# Altium footprint library Library.PcbLib: 17 footprints (part 1 of 2)
Each footprint in its own frame and in the unit in brackets; x right, y up, seen from the top. Pads: shape width x height; smd on the part's side, far side on the other; paste and mask are expansions set on the pad; w line width, h text height; cw(c..) or ccw(c..) is an arc to the next point about the centre after c.
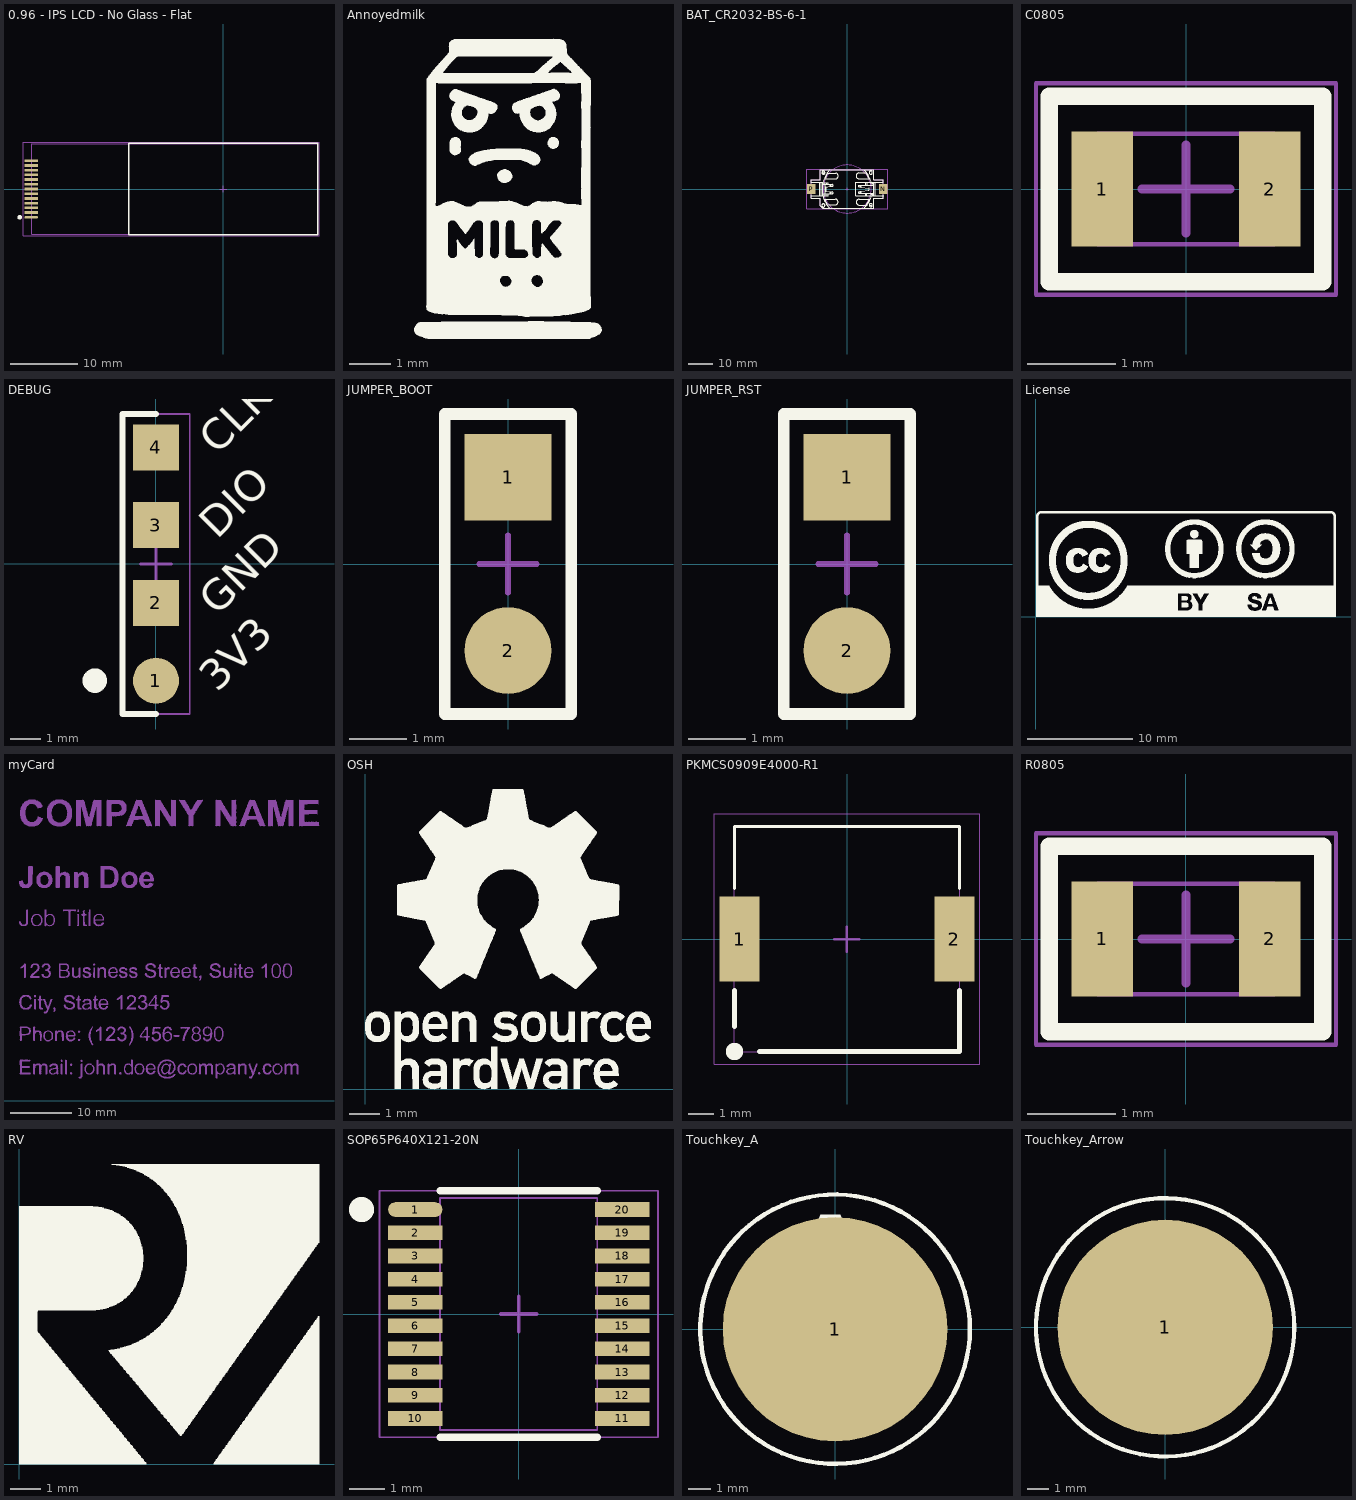
[diagram p0: the footprints below, top view; thin cyan lines are the x and y axes]

## 0.96 - IPS LCD - No Glass - Flat [mm]
pads (13):
  oval 2x0.4 smd: 1(-28.5,-4.2)
  rect 2x0.4 smd: 2(-28.5,-3.5) 3(-28.5,-2.8) 4(-28.5,-2.1) 5(-28.5,-1.4) 6(-28.5,-0.7) 7(-28.5,0) 8(-28.5,0.7) 9(-28.5,1.4) 10(-28.5,2.1) 11(-28.5,2.8) 12(-28.5,3.5) 13(-28.5,4.2)
Top Overlay:
  circle w0.5: c-30.2,-4.2 r0.1
  lines w0.2: -14,-6.75 14,-6.75 14,6.75 -14,6.75 -14,-6.75
Top 3D Body:
  lines w0.05: -28.375,-6.744 13.983,-6.744 13.983,6.744 -28.375,6.744 -28.375,-6.744
Top Courtyard:
  lines w0.05: -29.7,-6.9 14.2,-6.9 14.2,6.9 -29.7,6.9 -29.7,-6.9
Top Component Center:
  lines w0.1: -0.5,0 0.5,0 ; 0,-0.5 0,0.5
3D body "0.96 - IPS LCD - No Glass - Flat.stp": height 1.37, standoff -0.01, extent -28.375,-6.744 13.983,6.744

## Annoyedmilk [mm] "Image"
Top Overlay:
  drawing of 8 lines, arcs and shapes, not listed

## BAT_CR2032-BS-6-1 [mm]
height 5.55
pads (2):
  rect 3.5x4.2 smd paste+0 mask+0.102: N(14.975,0) P(-15.001,0)
Top Overlay:
  lines w0.254: -15.024,-2.794 -10.097,-2.794 ; -15.024,-2.479 -15.024,-3.785 -11.113,-3.785 ; -14.999,2.479 -14.999,3.785 -11.163,3.785 -11.163,7.976 -11.138,8.001 11.062,8.001 11.062,3.81 ; -14.999,2.692 cw(c-14.972,2.693) -14.971,2.72 ; -14.972,2.719 -10.097,2.719 ; -11.392,-2.743 -11.392,2.667 cw(c-11.341,2.667) -11.341,2.718 ; -11.113,-3.81 -11.113,-6.959 -10.071,-8.001 11.087,-8.001 11.112,-7.976 11.112,-3.785 14.948,-3.785 14.948,-2.479 ; -10.782,-2.794 -10.782,2.692 cw(c-10.757,2.692) -10.757,2.718 ; -10.528,6.807 -9.284,6.807 ; -10.198,-2.794 ccw(c-10.198,-2.743) -10.147,-2.743 ccw(c0.915,-0.11) -7.3,-7.973 ; -10.147,2.644 cw(c-10.073,2.646) -10.074,2.72 cw(c0.989,0.087) -7.226,7.95 ; -10.097,-2.057 -8.649,-2.057 -8.649,-2.794 ; -10.097,1.93 ccw(c-10.097,1.981) -10.046,1.981 ; -9.995,1.93 -8.547,1.93 -8.547,2.667 ; -9.876,-7.498 cw(c-9.869,-6.833) -9.863,-7.498 ; -9.876,6.142 cw(c-9.869,6.806) -9.863,6.142 ; -9.868,6.172 -9.868,7.442 ; -9.665,-4.191 -4.966,-4.191 cw(c-5.023,-5.421) -4.788,-6.629 -8.242,-6.629 ; -9.589,4.216 -4.89,4.216 ccw(c-4.947,5.446) -4.712,6.655 -8.166,6.655 ; -9.563,-2.794 -9.563,-2.083 ; -9.462,1.93 -9.462,2.642 ; -9.36,-4.242 cw(c-33.543,-20.082) -8.242,-6.096 -8.242,-6.68 ; -9.309,4.242 ccw(c-33.492,20.082) -8.192,6.096 -8.192,6.68 ; -9.131,1.93 -6.21,1.93 cw(c-6.295,1.499) -6.21,1.067 -6.566,1.067 ; -9.106,1.854 -9.106,-2.057 -6.185,-2.057 ccw(c-6.269,-1.626) -6.185,-1.194 -6.541,-1.194 ; -9.077,0.813 -7.095,1.067 -6.566,1.067 ; -9.052,-0.94 -6.928,-1.212 ; -8.776,-0.94 -8.776,0.855 ; -7.887,-2.108 -7.887,-2.794 -8.649,-2.794 ; -7.887,1.93 -7.887,2.692 -10.097,2.692 -10.097,-2.794 ; -6.998,1.067 -6.998,1.93 ; -6.972,-2.057 -6.972,-1.194 -6.541,-1.194 ; -6.566,1.93 -6.566,1.067 ; -6.541,-2.057 -6.541,-1.194 ; 4.712,6.68 8.166,6.68 ; 4.737,6.68 ccw(c4.973,5.472) 4.915,4.242 ; 4.889,4.242 9.588,4.242 ; 5.55,-1.753 5.55,-0.991 ; 5.55,0.864 5.55,1.626 ; 5.905,-1.727 5.905,-0.838 ; 5.905,1.6 5.905,0.711 ; 7.023,-8.001 ccw(c-0.837,0.217) 10.104,-2.883 ; 7.033,7.958 cw(c-0.915,-0.175) 10.02,2.946 ; 7.658,-2.896 7.658,-1.753 ; 7.683,1.676 7.683,2.819 ; 8.064,6.706 8.064,6.121 ccw(c33.365,20.107) 9.182,4.267 ; 8.242,-2.896 8.242,-1.753 ; 8.268,1.676 8.268,2.819 ; 9.182,-6.706 10.477,-6.706 ; 9.233,-4.216 ccw(c33.416,-20.056) 8.115,-6.071 8.115,-6.655 8.268,-6.655 4.813,-6.655 cw(c5.049,-5.446) 4.991,-4.216 9.639,-4.216 ; 9.835,-7.371 cw(c9.841,-6.706) 9.848,-7.371 ; 9.835,6.142 cw(c9.841,6.806) 9.848,6.142 ; 10.02,-2.799 10.02,-2.261 11.163,-2.261 ; 10.02,2.799 10.02,2.261 11.163,2.261 ; 10.731,-2.896 10.731,-2.311 ; 10.731,2.311 10.731,2.896 ; 11.062,3.785 14.973,3.785 14.973,2.479 ; 11.138,-1.753 4.737,-1.753 4.737,-1.245 4.737,-1.041 5.499,-1.041 5.702,-0.838 5.905,-0.838 ; 11.138,1.626 4.737,1.626 4.737,1.118 4.737,0.914 5.499,0.914 5.702,0.711 5.905,0.711 ; 11.163,-2.896 11.163,2.845 ; 11.646,-2.819 11.646,2.794 ; 14.948,-2.921 14.922,-2.896 12.281,-2.896 11.9,-2.896 3.569,-2.896 3.569,2.845 3.619,2.896 11.925,2.896 12.306,2.896 12.941,2.896 14.948,2.896 14.973,2.921 ; -10.097,-2.794 -8.649,-2.794 ; 5.905,-0.838 9.08,-0.432 ccw(c8.712,-0.064) 9.08,0.305 5.905,0.711
Top 3D Body:
  circle w0.15: c0,0 r10
  lines w0.05: -14.999,-3.785 -14.999,3.785 -11.163,3.785 -11.163,8 11.05,8 11.05,3.785 14.948,3.785 14.948,-3.785 11.05,-3.785 11.05,-8 -10.072,-8 -11.113,-6.959 -11.113,-3.785 -14.999,-3.785
Top Courtyard:
  lines w0.05: -16.9,-8.2 -16.9,8.2 16.9,8.2 16.9,-8.2 -16.9,-8.2
Top Component Center:
  lines w0.1: -0.5,0 0.5,0 ; 0,-0.5 0,0.5
3D body "step_temp.STEP": height 5.55, standoff 0, extent -15.65,-8 15.65,8

## C0805 [mm]
pads (2):
  rect 0.7x1.3 smd paste+0 mask+0: 1(-0.95,0) 2(0.95,0)
Top Overlay:
  lines w0.2: -1.55,-1.05 1.55,-1.05 1.55,1.05 -1.55,1.05 -1.55,-1.05
Top 3D Body:
  lines w0.05: -1,-0.625 1,-0.625 1,0.625 -1,0.625 -1,-0.625
Top Courtyard:
  lines w0.05: -1.7,-1.2 1.7,-1.2 1.7,1.2 -1.7,1.2 -1.7,-1.2
Top Component Center:
  lines w0.1: -0.5,0 0.5,0 ; 0,-0.5 0,0.5
3D body "Cap_Murata_GRM21BC81C106KA73L_eec.STEP": height 1.4, standoff 0, extent -1,-0.625 1,0.625

## DEBUG [mm]
height 1.21
pads (4):
  round 1.5 smd: 1(0,-3.81)
  rect 1.5x1.5 smd: 2(0,-1.27) 3(0,1.27) 4(0,3.81)
Top Overlay:
  circle w0.5: c-2,-3.81 r0.15
  lines w0.2: 0,-4.9 -1.1,-4.9 -1.1,4.9 0,4.9
  text "3V3" at 2,-4.217 h1
  text "GND" at 2,-1.717 h1
  text "DIO" at 2,0.783 h1
  text "CLK" at 2,3.533 h1
Top Courtyard:
  lines w0.05: -1.1,-4.9 1.1,-4.9 1.1,4.9 -1.1,4.9 -1.1,-4.9
Top Component Center:
  lines w0.1: -0.5,0 0.5,0 ; 0,-0.5 0,0.5

## JUMPER_BOOT [mm]
height 1.21
pads (2):
  rect 1.5x1.5 smd: 1(0,1.5)
  round 1.5 smd: 2(0,-1.5)
Top Overlay:
  lines w0.2: -1.1,-2.6 1.1,-2.6 1.1,2.6 -1.1,2.6 -1.1,-2.6
Top Courtyard:
  lines w0.05: -1.1,-2.6 -1.1,2.6 1.1,2.6 1.1,-2.6 -1.1,-2.6
Top Component Center:
  lines w0.1: -0.5,0 0.5,0 ; 0,-0.5 0,0.5

## JUMPER_RST [mm]
height 1.21
pads (2):
  rect 1.5x1.5 smd: 1(0,1.5)
  round 1.5 smd: 2(0,-1.5)
Top Overlay:
  lines w0.2: -1.1,-2.6 -1.1,2.6 1.1,2.6 1.1,-2.6 -1.1,-2.6
Top Courtyard:
  lines w0.05: -1.1,-2.6 1.1,-2.6 1.1,2.6 -1.1,2.6 -1.1,-2.6
Top Component Center:
  lines w0.1: -0.5,0 0.5,0 ; 0,-0.5 0,0.5

## License [mm] "Image"
Top Overlay:
  drawing of 12 lines, arcs and shapes, not listed

## myCard [mm] "Image"
Top Solder:
  drawing of 120 lines, arcs and shapes, not listed

## OSH [mm] "Image"
Top Overlay:
  drawing of 18 lines, arcs and shapes, not listed

## PKMCS0909E4000-R1 [mm]
pads (2):
  rect 1.6x3.4 smd: 1(-4.3,0) 2(4.3,0)
Top Overlay:
  circle w0.5: c-4.5,-4.5 r0.1
  lines w0.127: -4.5,2.015 -4.5,4.5 4.5,4.5 4.5,2.015
  lines w0.2: -4.5,-3.5 -4.5,-2.052 ; -3.5,-4.5 4.5,-4.5 4.5,-2.052
Top 3D Body:
  lines w0.05: -4.5,-4.5 -4.5,4.5 4.5,4.5 4.5,-4.5 -4.5,-4.5
Top Courtyard:
  lines w0.05: -5.3,-5 -5.3,5 5.3,5 5.3,-5 -5.3,-5
Top Component Center:
  lines w0.1: -0.5,0 0.5,0 ; 0,-0.5 0,0.5
3D body "PKMCS0909E4000-R1--3DModel-STEP-56544.STEP": height 1.9, standoff 0, extent -4.5,-4.5 4.5,4.5

## R0805 [mm]
pads (2):
  rect 0.7x1.3 smd paste+0 mask+0: 1(-0.95,0) 2(0.95,0)
Top Overlay:
  lines w0.2: -1.55,-1.05 1.55,-1.05 1.55,1.05 -1.55,1.05 -1.55,-1.05
Top 3D Body:
  lines w0.05: -1,-0.625 1,-0.625 1,0.625 -1,0.625 -1,-0.625
Top Courtyard:
  lines w0.05: -1.7,-1.2 1.7,-1.2 1.7,1.2 -1.7,1.2 -1.7,-1.2
Top Component Center:
  lines w0.1: -0.5,0 0.5,0 ; 0,-0.5 0,0.5
3D body "Res_Vishay_CRCW0805100KFKEA_eec.STEP": height 0.5, standoff 0, extent -1,-0.625 1,0.625

## RV [mm] "Image"
Top Overlay:
  drawing of 3 lines, arcs and shapes, not listed

## SOP65P640X121-20N [mm]
height 1.21
pads (20):
  oval 1.52x0.41 smd: 1(-2.895,2.925)
  rect 1.52x0.41 smd: 2(-2.895,2.275) 3(-2.895,1.625) 4(-2.895,0.975) 5(-2.895,0.325) 6(-2.895,-0.325) 7(-2.895,-0.975) 8(-2.895,-1.625) 9(-2.895,-2.275) 10(-2.895,-2.925) 11(2.895,-2.925) 12(2.895,-2.275) 13(2.895,-1.625) 14(2.895,-0.975) 15(2.895,-0.325) 16(2.895,0.325) 17(2.895,0.975) 18(2.895,1.625) 19(2.895,2.275) 20(2.895,2.925)
Top Overlay:
  circle w0.5: c-4.4,2.925 r0.1
  lines w0.2: -2.2,-3.45 2.2,-3.45 ; -2.2,3.45 2.2,3.45
Top 3D Body:
  lines w0.05: -2.2,-3.25 2.2,-3.25 2.2,3.25 -2.2,3.25 -2.2,-3.25
Top Courtyard:
  lines w0.05: -3.9,-3.45 3.9,-3.45 3.9,3.45 -3.9,3.45 -3.9,-3.45
Top Component Center:
  lines w0.1: -0.5,0 0.5,0 ; 0,-0.5 0,0.5
3D body "step_temp.STEP": height 1.1, standoff 0, extent -3.2,-3.25 3.2,3.25

## Touchkey_A [mm]
height 1.21
pads (1):
  round 10 smd mask-10: 1(0,0)
Top Overlay:
  circle w0.2: c0,0 r6
  text "A" at -2.94,-2.643 h10
Top Courtyard:
  circle w0.05: c0,0 r6
Top Component Center:
  lines w0.1: -0.5,0 0.5,0 ; 0,-0.5 0,0.5

## Touchkey_Arrow [mm]
height 1.21
pads (1):
  round 10 smd mask-10: 1(0,0)
Top Overlay:
  circle w0.2: c0,0 r6
  text "▲" at -2.065,-2.759 h10
Top Courtyard:
  circle w0.05: c0,0 r6
Top Component Center:
  lines w0.1: -0.5,0 0.5,0 ; 0,-0.5 0,0.5